# Altium schematic symbol library PIC30F4012.Schlib: 1 symbol
Pins are listed as number, name and electrical type; pins without a type are passive.

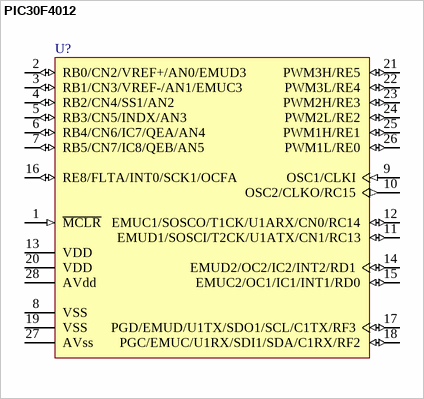
[diagram p0: symbol PIC30F4012]

## PIC30F4012
designator U?
16-bit Flash microcontroller; Package Information: Latest Revision: 1997; Published: 8-Jun-2000; Revision: 17-Jul-2002: Re-released for DXP Platform.; Datasheet: Latest Revision: 1997; Package Reference: JW40; Publisher: Altium Limited
footprint SO-28
pins: 1 ~{MCLR} (in), 2 RB0/CN2/VREF+/AN0/EMUD3 (io), 3 RB1/CN3/VREF-/AN1/EMUC3 (io), 4 RB2/CN4/SS1/AN2 (io), 5 RB3/CN5/INDX/AN3 (io), 6 RB4/CN6/IC7/QEA/AN4 (io), 7 RB5/CN7/IC8/QEB/AN5 (io), 8 VSS (power), 9 OSC1/CLKI (in), 10 OSC2/CLKO/RC15 (out), 11 EMUD1/SOSCI/T2CK/U1ATX/CN1/RC13 (io), 12 EMUC1/SOSCO/T1CK/U1ARX/CN0/RC14 (io), 13 VDD (power), 14 EMUD2/OC2/IC2/INT2/RD1 (io), 15 EMUC2/OC1/IC1/INT1/RD0 (io), 16 RE8/FLTA/INT0/SCK1/OCFA (io), 17 PGD/EMUD/U1TX/SDO1/SCL/C1TX/RF3 (io), 18 PGC/EMUC/U1RX/SDI1/SDA/C1RX/RF2 (io), 19 VSS (power), 20 VDD (power), 21 PWM3H/RE5 (io), 22 PWM3L/RE4 (io), 23 PWM2H/RE3 (io), 24 PWM2L/RE2 (io), 25 PWM1H/RE1 (io), 26 PWM1L/RE0 (io), 27 AVss (power), 28 AVdd (power)